# EAGLE library part ATMEGA328P (library ncue_ee)
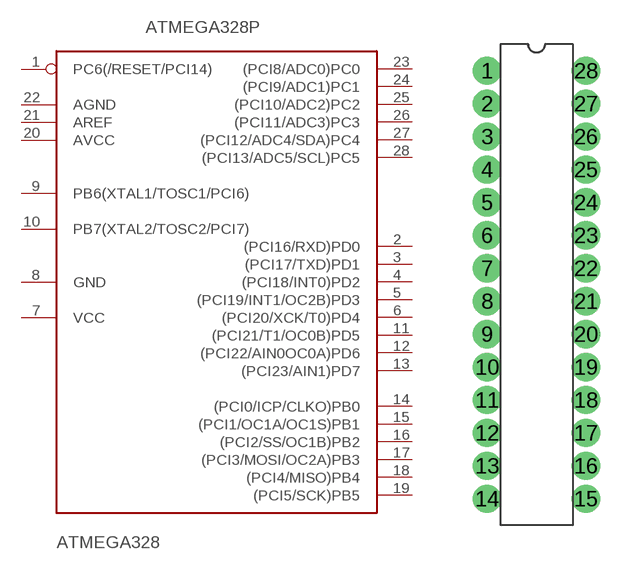
[diagram p11: symbol with the pads of ATMEGA328P; footprint ATMEGA328P]

Designator prefix ATMEGA328

## ATMEGA328P  [ATMEGA328P]
1  PC6(/RESET/PCI14)
2  (PCI16/RXD)PD0
3  (PCI17/TXD)PD1
4  (PCI18/INT0)PD2
5  (PCI19/INT1/OC2B)PD3
6  (PCI20/XCK/T0)PD4
7  VCC
8  GND
9  PB6(XTAL1/TOSC1/PCI6)
10  PB7(XTAL2/TOSC2/PCI7)
11  (PCI21/T1/OC0B)PD5
12  (PCI22/AIN0OC0A)PD6
13  (PCI23/AIN1)PD7
14  (PCI0/ICP/CLKO)PB0
15  (PCI1/OC1A/OC1S)PB1
16  (PCI2/SS/OC1B)PB2
17  (PCI3/MOSI/OC2A)PB3
18  (PCI4/MISO)PB4
19  (PCI5/SCK)PB5
20  AVCC
21  AREF
22  AGND
23  (PCI8/ADC0)PC0
24  (PCI9/ADC1)PC1
25  (PCI10/ADC2)PC2
26  (PCI11/ADC3)PC3
27  (PCI12/ADC4/SDA)PC4
28  (PCI13/ADC5/SCL)PC5

## Footprint ATMEGA328P (pad centres in mm)
drill 1.1 pad 2.184: 1 0,0; 2 0,-2.54; 3 0,-5.08; 4 0,-7.62; 5 0,-10.16; 6 0,-12.7; 7 0,-15.24; 8 0,-17.78; 9 0,-20.32; 10 0,-22.86; 11 0,-25.4; 12 0,-27.94; 13 0,-30.48; 14 0,-33.02; 15 7.62,-33.02; 16 7.62,-30.48; 17 7.62,-27.94; 18 7.62,-25.4; 19 7.62,-22.86; 20 7.62,-20.32; 21 7.62,-17.78; 22 7.62,-15.24; 23 7.62,-12.7; 24 7.62,-10.16; 25 7.62,-7.62; 26 7.62,-5.08; 27 7.62,-2.54; 28 7.62,0